# EAGLE library part MAGI³C-VDMM_171960501 (library Eagle_MAGIC-VDMM (rev22a))
MagI³C-VDMM Variable Step Down MicroModule Characteristics Low conducted and radiated EMI (compliant to EN55022 class B / CISPR-22 LGA-6EP Very low profile Micro-package Ideal for space constrained applications Small CIN and COUT integrated 3 solder cycles supported Applications Point-of-Load DC/DC applications from 5 V or 3.3 V rail Replacement for linear regulators Interface and microcontroller supply DSP and FPGA power supply auxiliary voltages Portable instruments Battery powered equipment <https://www.we-online.com/catalog/media/o109063v209%20Family_VDMM.jpg> Details see: www.we-online.com/catalog/MAGIC-VDMM <www.we-online.com/catalog/MAGIC-VDMM/?utm_source=eagle_model&utm_medium=description_link&utm_campaign=eisos_eagle> Updated By Ella Wu 2019-09-18 2019 (C) Wurth Elektronik
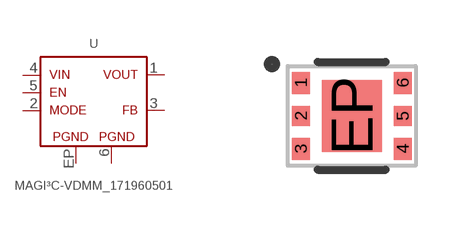
[diagram p0: symbol with the pads of MAGI³C-VDMM_171960501; footprint MAGI³C-VDMM_171960501]

Designator prefix U

## MAGI³C-VDMM_171960501 (DATASHEET-URL: https://www.we-online.com/redexpert/spec171960501?ae; I-OUTPUT: 0.6A; MOUNT: SMT; PART-NUMBER: 171960501; V-INPUT: 2.7-5.5V; V-OUTPUT: 0.6-5.5V; VALUE: 171960501)  [MAGI³C-VDMM_171960501]
1  VOUT  pas
2  MODE  pas
3  FB  pas
4  VIN  pas
5  EN  pas
6  PGND  pas
EP  PGND1  pas

## Footprint MAGI³C-VDMM_171960501 (pad centres in mm)
MagI³C-VDMM Variable Step Down MicroModule
smd 0.45 x 0.55: 1 -1.275,0.825; 3 -1.275,-0.825; 4 1.275,-0.825; 6 1.275,0.825
smd 0.45 x 0.5: 2 -1.275,0; 5 1.275,0
smd 1.5 x 1.8: EP 0,0